# Altium footprint library SAM9552-ND.PcbLib: 1 footprints
Each footprint in its own frame and in the unit in brackets; x right, y up, seen from the top. Pads: shape width x height; smd on the part's side, far side on the other; paste and mask are expansions set on the pad; w line width, h text height; cw(c..) or ccw(c..) is an arc to the next point about the centre after c.
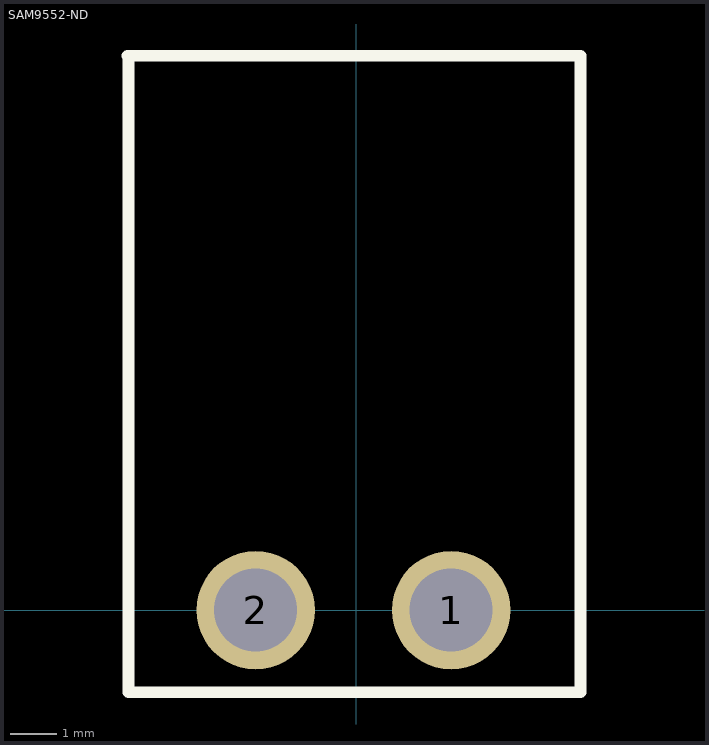
[diagram p0: the footprint, top view; thin cyan lines are the x and y axes]

## SAM9552-ND [mil] "Samtec Connector Through Hole, Right Angle 2 pos 0.165\" (4.20mm) pitch"
height 259.06
pads (2):
  round 100 hole 70 mask+3: 1(80,0) 2(-85,0)
Top Overlay:
  lines w10: -193.25,468 189.25,468 189.25,-69.25 -192.5,-69.25 -192.5,465.5
3D body "IPBT-102-H1-T-S-RA.stp": height 286.03, standoff -146.97, extent -193.25,-19.5 189.25,468
3D body "IPBD-02-S-K.stp": height 386.03, standoff -26.97, extent -247,183 243,953